# EAGLE library part STM32F427 (library STM32F427)
ARM Cortex-M4 32b MCU+FPU
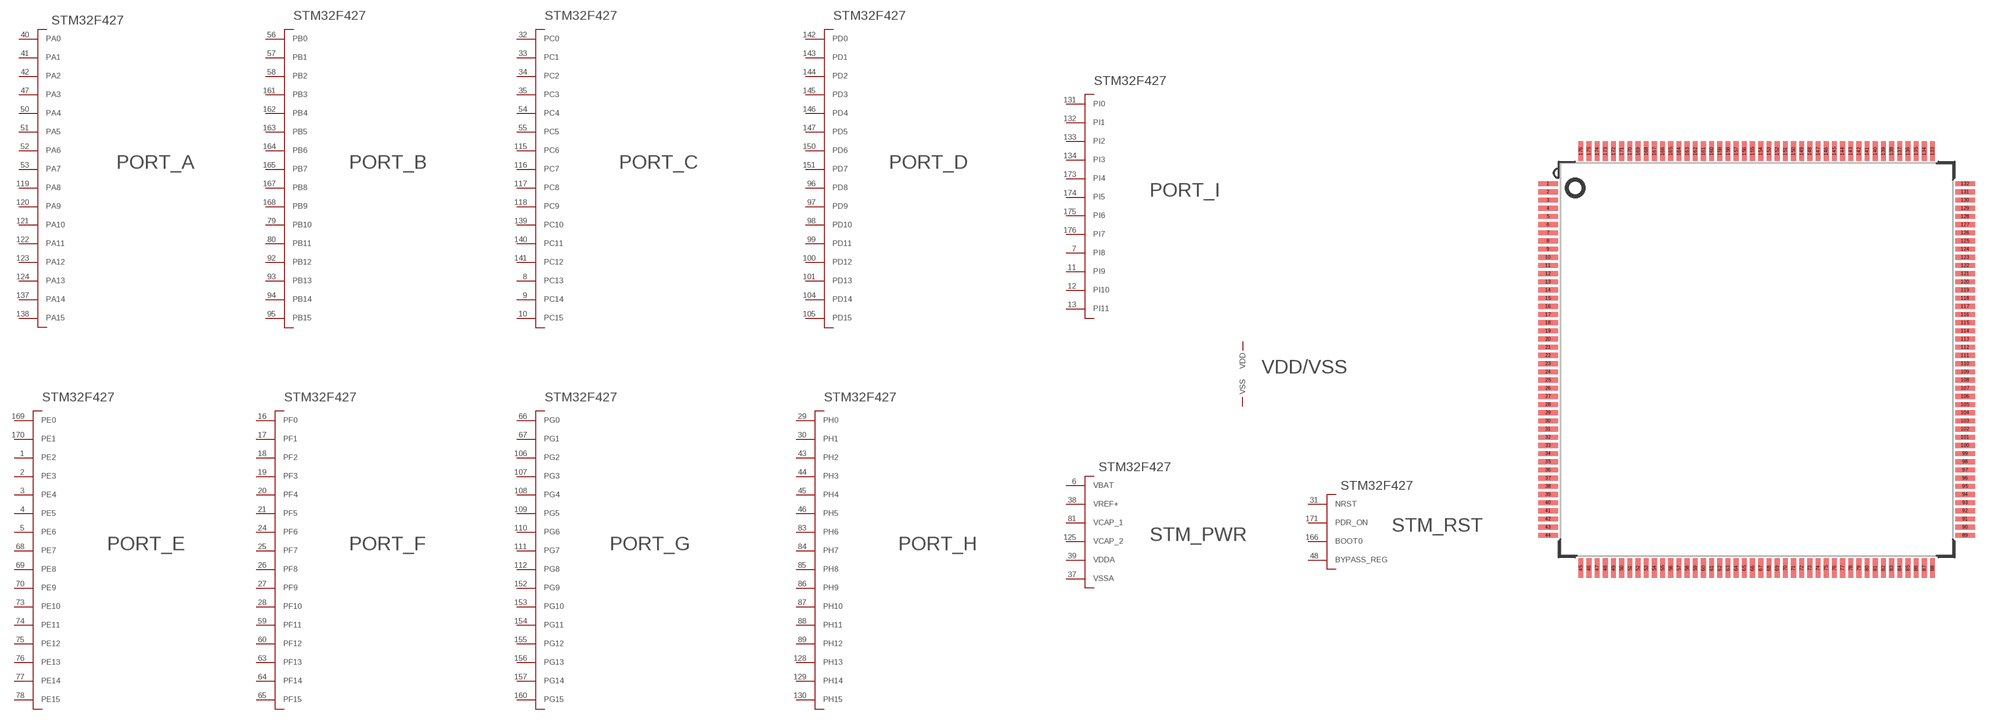
[diagram p0: symbol with the pads of LQFP176; footprint LQFP176]

Designator prefix U; gates G1=PORT_A G2=PORT_B G3=PORT_C G4=PORT_D G5=PORT_E G6=PORT_F G7=PORT_G G8=PORT_H G9=PORT_I PWR_REF=STM_PWR PWF_MAIN=STM_VDD_VSS CTRL=STM_RST

## STM32F427-STM32F427  [LQFP176]
1  G5:PE2
2  G5:PE3
3  G5:PE4
4  G5:PE5
5  G5:PE6
6  PWR_REF:VBAT  pwr
7  G9:PI8
8  G3:PC13
9  G3:PC14
10  G3:PC15
11  G9:PI9
12  G9:PI10
13  G9:PI11
14  PWF_MAIN:VSS  pwr
15  PWF_MAIN:VDD  pwr
16  G6:PF0
17  G6:PF1
18  G6:PF2
19  G6:PF3
20  G6:PF4
21  G6:PF5
22  PWF_MAIN:VSS  pwr
23  PWF_MAIN:VDD  pwr
24  G6:PF6
25  G6:PF7
26  G6:PF8
27  G6:PF9
28  G6:PF10
29  G8:PH0
30  G8:PH1
31  CTRL:NRST  in
32  G3:PC0
33  G3:PC1
34  G3:PC2
35  G3:PC3
36  PWF_MAIN:VDD  pwr
37  PWR_REF:VSSA  pwr
38  PWR_REF:VREF+  pwr
39  PWR_REF:VDDA  pwr
40  G1:PA0
41  G1:PA1
42  G1:PA2
43  G8:PH2
44  G8:PH3
45  G8:PH4
46  G8:PH5
47  G1:PA3
48  CTRL:BYPASS_REG  in
49  PWF_MAIN:VDD  pwr
50  G1:PA4
51  G1:PA5
52  G1:PA6
53  G1:PA7
54  G3:PC4
55  G3:PC5
56  G2:PB0
57  G2:PB1
58  G2:PB2
59  G6:PF11
60  G6:PF12
61  PWF_MAIN:VSS  pwr
62  PWF_MAIN:VDD  pwr
63  G6:PF13
64  G6:PF14
65  G6:PF15
66  G7:PG0
67  G7:PG1
68  G5:PE7
69  G5:PE8
70  G5:PE9
71  PWF_MAIN:VSS  pwr
72  PWF_MAIN:VDD  pwr
73  G5:PE10
74  G5:PE11
75  G5:PE12
76  G5:PE13
77  G5:PE14
78  G5:PE15
79  G2:PB10
80  G2:PB11
81  PWR_REF:VCAP_1  pwr
82  PWF_MAIN:VDD  pwr
83  G8:PH6
84  G8:PH7
85  G8:PH8
86  G8:PH9
87  G8:PH10
88  G8:PH11
89  G8:PH12
90  PWF_MAIN:VSS  pwr
91  PWF_MAIN:VDD  pwr
92  G2:PB12
93  G2:PB13
94  G2:PB14
95  G2:PB15
96  G4:PD8
97  G4:PD9
98  G4:PD10
99  G4:PD11
100  G4:PD12
101  G4:PD13
102  PWF_MAIN:VSS  pwr
103  PWF_MAIN:VDD  pwr
104  G4:PD14
105  G4:PD15
106  G7:PG2
107  G7:PG3
108  G7:PG4
109  G7:PG5
110  G7:PG6
111  G7:PG7
112  G7:PG8
113  PWF_MAIN:VSS  pwr
114  PWF_MAIN:VDD  pwr
115  G3:PC6
116  G3:PC7
117  G3:PC8
118  G3:PC9
119  G1:PA8
120  G1:PA9
121  G1:PA10
122  G1:PA11
123  G1:PA12
124  G1:PA13
125  PWR_REF:VCAP_2  pwr
126  PWF_MAIN:VSS  pwr
127  PWF_MAIN:VDD  pwr
128  G8:PH13
129  G8:PH14
130  G8:PH15
131  G9:PI0
132  G9:PI1
133  G9:PI2
134  G9:PI3
135  PWF_MAIN:VSS  pwr
136  PWF_MAIN:VDD  pwr
137  G1:PA14
138  G1:PA15
139  G3:PC10
140  G3:PC11
141  G3:PC12
142  G4:PD0
143  G4:PD1
144  G4:PD2
145  G4:PD3
146  G4:PD4
147  G4:PD5
148  PWF_MAIN:VSS  pwr
149  PWF_MAIN:VDD  pwr
150  G4:PD6
151  G4:PD7
152  G7:PG9
153  G7:PG10
154  G7:PG11
155  G7:PG12
156  G7:PG13
157  G7:PG14
158  PWF_MAIN:VSS  pwr
159  PWF_MAIN:VDD  pwr
160  G7:PG15
161  G2:PB3
162  G2:PB4
163  G2:PB5
164  G2:PB6
165  G2:PB7
166  CTRL:BOOT0  in
167  G2:PB8
168  G2:PB9
169  G5:PE0
170  G5:PE1
171  CTRL:PDR_ON  in
172  PWF_MAIN:VDD  pwr
173  G9:PI4
174  G9:PI5
175  G9:PI6
176  G9:PI7

## Footprint LQFP176 (pad centres in mm)
LQFP176 - 24 x 24 mm, 176-pin low-profile quad flat package
smd 1.2 x 0.3: 1 -12.75,10.75; 2 -12.75,10.25; 3 -12.75,9.75; 4 -12.75,9.25; 5 -12.75,8.75; 6 -12.75,8.25; 7 -12.75,7.75; 8 -12.75,7.25; 9 -12.75,6.75; 10 -12.75,6.25; 11 -12.75,5.75; 12 -12.75,5.25; 13 -12.75,4.75; 14 -12.75,4.25; 15 -12.75,3.75; 16 -12.75,3.25; 17 -12.75,2.75; 18 -12.75,2.25; 19 -12.75,1.75; 20 -12.75,1.25; 21 -12.75,0.75; 22 -12.75,0.25; 23 -12.75,-0.25; 24 -12.75,-0.75; 25 -12.75,-1.25; 26 -12.75,-1.75; 27 -12.75,-2.25; 28 -12.75,-2.75; 29 -12.75,-3.25; 30 -12.75,-3.75; 31 -12.75,-4.25; 32 -12.75,-4.75; 33 -12.75,-5.25; 34 -12.75,-5.75; 35 -12.75,-6.25; 36 -12.75,-6.75; 37 -12.75,-7.25; 38 -12.75,-7.75; 39 -12.75,-8.25; 40 -12.75,-8.75; 41 -12.75,-9.25; 42 -12.75,-9.75; 43 -12.75,-10.25; 44 -12.75,-10.75; 89 12.75,-10.75; 90 12.75,-10.25; 91 12.75,-9.75; 92 12.75,-9.25; 93 12.75,-8.75; 94 12.75,-8.25; 95 12.75,-7.75; 96 12.75,-7.25; 97 12.75,-6.75; 98 12.75,-6.25; 99 12.75,-5.75; 100 12.75,-5.25; 101 12.75,-4.75; 102 12.75,-4.25; 103 12.75,-3.75; 104 12.75,-3.25; 105 12.75,-2.75; 106 12.75,-2.25; 107 12.75,-1.75; 108 12.75,-1.25; 109 12.75,-0.75; 110 12.75,-0.25; 111 12.75,0.25; 112 12.75,0.75; 113 12.75,1.25; 114 12.75,1.75; 115 12.75,2.25; 116 12.75,2.75; 117 12.75,3.25; 118 12.75,3.75; 119 12.75,4.25; 120 12.75,4.75; 121 12.75,5.25; 122 12.75,5.75; 123 12.75,6.25; 124 12.75,6.75; 125 12.75,7.25; 126 12.75,7.75; 127 12.75,8.25; 128 12.75,8.75; 129 12.75,9.25; 130 12.75,9.75; 131 12.75,10.25; 132 12.75,10.75
smd 0.3 x 1.2: 45 -10.75,-12.75; 46 -10.25,-12.75; 47 -9.75,-12.75; 48 -9.25,-12.75; 49 -8.75,-12.75; 50 -8.25,-12.75; 51 -7.75,-12.75; 52 -7.25,-12.75; 53 -6.75,-12.75; 54 -6.25,-12.75; 55 -5.75,-12.75; 56 -5.25,-12.75; 57 -4.75,-12.75; 58 -4.25,-12.75; 59 -3.75,-12.75; 60 -3.25,-12.75; 61 -2.75,-12.75; 62 -2.25,-12.75; 63 -1.75,-12.75; 64 -1.25,-12.75; 65 -0.75,-12.75; 66 -0.25,-12.75; 67 0.25,-12.75; 68 0.75,-12.75; 69 1.25,-12.75; 70 1.75,-12.75; 71 2.25,-12.75; 72 2.75,-12.75; 73 3.25,-12.75; 74 3.75,-12.75; 75 4.25,-12.75; 76 4.75,-12.75; 77 5.25,-12.75; 78 5.75,-12.75; 79 6.25,-12.75; 80 6.75,-12.75; 81 7.25,-12.75; 82 7.75,-12.75; 83 8.25,-12.75; 84 8.75,-12.75; 85 9.25,-12.75; 86 9.75,-12.75; 87 10.25,-12.75; 88 10.75,-12.75; 133 10.75,12.75; 134 10.25,12.75; 135 9.75,12.75; 136 9.25,12.75; 137 8.75,12.75; 138 8.25,12.75; 139 7.75,12.75; 140 7.25,12.75; 141 6.75,12.75; 142 6.25,12.75; 143 5.75,12.75; 144 5.25,12.75; 145 4.75,12.75; 146 4.25,12.75; 147 3.75,12.75; 148 3.25,12.75; 149 2.75,12.75; 150 2.25,12.75; 151 1.75,12.75; 152 1.25,12.75; 153 0.75,12.75; 154 0.25,12.75; 155 -0.25,12.75; 156 -0.75,12.75; 157 -1.25,12.75; 158 -1.75,12.75; 159 -2.25,12.75; 160 -2.75,12.75; 161 -3.25,12.75; 162 -3.75,12.75; 163 -4.25,12.75; 164 -4.75,12.75; 165 -5.25,12.75; 166 -5.75,12.75; 167 -6.25,12.75; 168 -6.75,12.75; 169 -7.25,12.75; 170 -7.75,12.75; 171 -8.25,12.75; 172 -8.75,12.75; 173 -9.25,12.75; 174 -9.75,12.75; 175 -10.25,12.75; 176 -10.75,12.75